# Altium footprint library A.Shelestov_Resistors.PcbLib: 9 footprints
Each footprint in its own frame and in the unit in brackets; x right, y up, seen from the top. Pads: shape width x height; smd on the part's side, far side on the other; paste and mask are expansions set on the pad; w line width, h text height; cw(c..) or ccw(c..) is an arc to the next point about the centre after c.
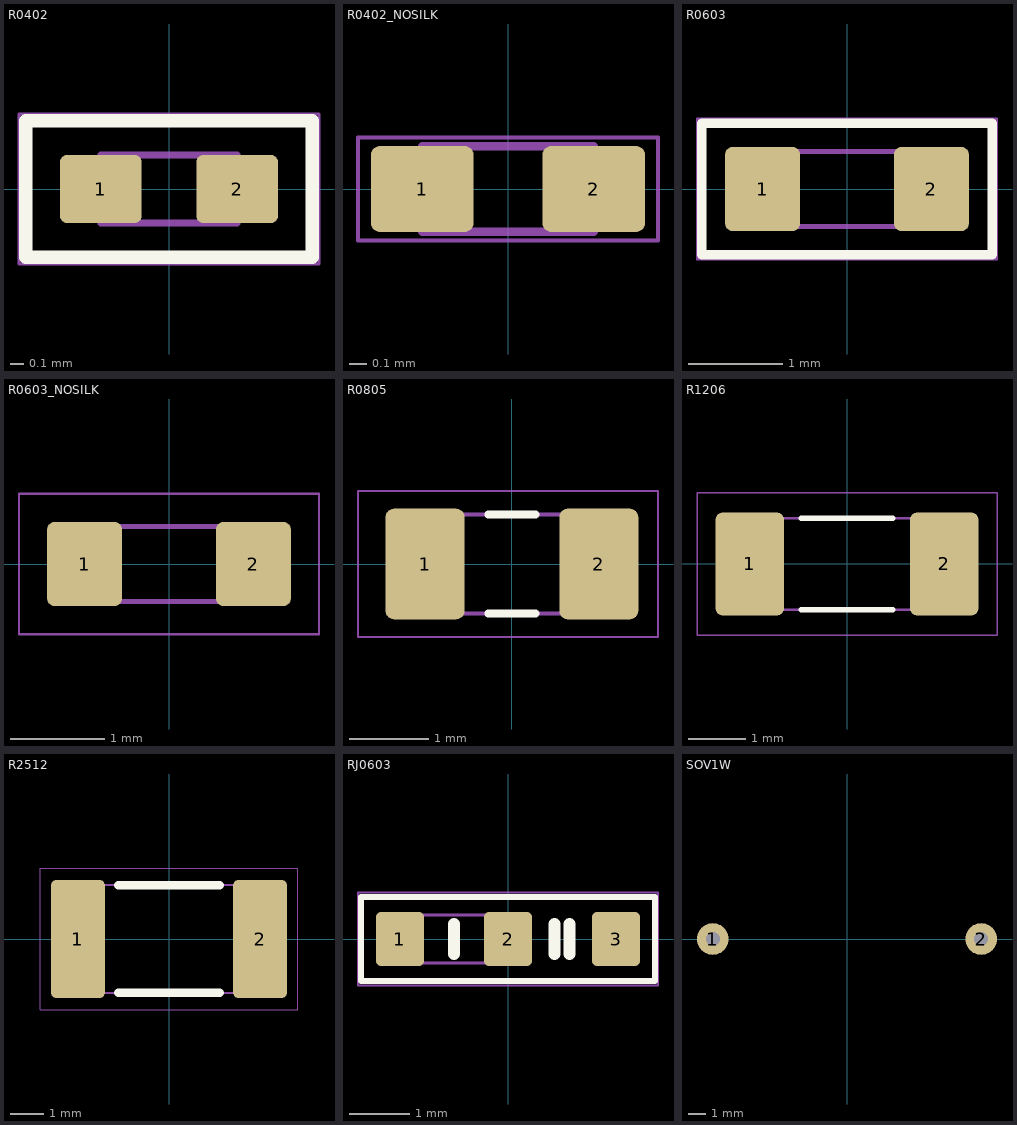
[diagram p0: the footprints below, top view; thin cyan lines are the x and y axes]

## R0402 [mm]
pads (2):
  rrect20% 0.6x0.5 smd: 1(-0.5,0) 2(0.5,0)
Top Overlay:
  lines w0.1: 1.05,0.5 1.05,-0.5 -1.05,-0.5 -1.05,0.5 1.05,0.5 ; 1.05,0.5 1.05,0.5
Top Assembly:
  lines w0.05: -0.5,-0.25 -0.5,0.25 0.5,0.25 0.5,-0.25 -0.5,-0.25
  text ".Designator" at -0.35,-0.15 h0.3
Top Courtyard:
  lines w0.025: -1.1,-0.55 -1.1,0.55 1.1,0.55 1.1,-0.55 -1.1,-0.55
3D body "R0402.step": height 0.35, standoff 0, extent -0.5,-0.25 0.5,0.25

## R0402_NOSILK [mm]
pads (2):
  rrect20% 0.6x0.5 smd: 1(-0.5,0) 2(0.5,0)
Top Assembly:
  lines w0.05: -0.5,-0.25 0.5,-0.25 0.5,0.25 -0.5,0.25 -0.5,-0.25
  text ".Designator" at -0.35,-0.15 h0.3
Top Courtyard:
  lines w0.025: -0.875,-0.3 0.875,-0.3 0.875,0.3 -0.875,0.3 -0.875,-0.3
3D body "R0402.step": height 0.35, standoff 0, extent -0.5,-0.25 0.5,0.25

## R0603 [mm]
pads (2):
  rrect20% 0.8x0.9 smd: 1(-0.9,0) 2(0.9,0)
Top Overlay:
  lines w0.1: -1.55,-0.7 -1.55,0.7 1.55,0.7 1.55,-0.7 -1.55,-0.7
Top Assembly:
  lines w0.05: -0.8,-0.4 -0.8,0.4 0.8,0.4 0.8,-0.4 -0.8,-0.4
  text ".Designator" at -0.65,-0.25 h0.5
Top Courtyard:
  lines w0.025: -1.6,-0.75 -1.6,0.75 1.6,0.75 1.6,-0.75 -1.6,-0.75
3D body "R0603.step": height 0.45, standoff 0, extent -0.8,-0.4 0.8,0.4

## R0603_NOSILK [mm]
pads (2):
  rrect20% 0.8x0.9 smd: 1(-0.9,0) 2(0.9,0)
Top Assembly:
  lines w0.05: -0.8,-0.4 0.8,-0.4 0.8,0.4 -0.8,0.4 -0.8,-0.4
  text ".Designator" at -0.65,-0.25 h0.5
Top Courtyard:
  lines w0.025: -1.6,-0.75 1.6,-0.75 1.6,0.75 -1.6,0.75 -1.6,-0.75
3D body "R0603.step": height 0.45, standoff 0, extent -0.8,-0.4 0.8,0.4

## R0805 [mm]
pads (2):
  rrect20% 1x1.4 smd: 1(-1.1,0) 2(1.1,0)
Top Overlay:
  lines w0.1: -0.3,-0.625 0.3,-0.625 ; -0.3,0.625 0.3,0.625
Top Assembly:
  lines w0.05: -1,-0.624 1,-0.624 1,0.624 -1,0.624 -1,-0.624
  text ".Designator" at -0.875,-0.3 h0.65
Top Courtyard:
  lines w0.025: -1.95,-0.925 1.85,-0.925 1.85,0.925 -1.95,0.925 -1.95,-0.925
3D body "R0805.step": height 0.6, standoff 0, extent -1,-0.625 1,0.625

## R1206 [mm]
pads (2):
  rrect20% 1.2x1.8 smd: 1(-1.7,0) 2(1.7,0)
Top Overlay:
  lines w0.1: -0.8,-0.8 0.8,-0.8 ; -0.8,0.8 0.8,0.8
Top Assembly:
  lines w0.05: -1.6,-0.8 -1.6,0.8 1.6,0.8 1.6,-0.8 -1.6,-0.8
  text ".Designator" at -1.35,-0.5 h1
Top Courtyard:
  lines w0.025: -2.625,-1.25 -2.625,1.25 2.625,1.25 2.625,-1.25 -2.625,-1.25
3D body "R1206.step": height 0.6, standoff 0, extent -1.6,-0.8 1.6,0.8

## R2512 [mm]
pads (2):
  rrect20% 1.6x3.5 smd: 1(-2.7,0) 2(2.7,0)
Top Overlay:
  lines w0.254: -1.5,-1.6 1.5,-1.6 ; -1.5,1.6 1.5,1.6
Top Assembly:
  lines w0.05: -3.2,-1.6 3.2,-1.6 3.2,1.6 -3.2,1.6 -3.2,-1.6
  text ".Designator" at -2.65,-1 h2
Top Courtyard:
  lines w0.025: -3.825,-2.1 3.825,-2.1 3.825,2.1 -3.825,2.1 -3.825,-2.1
3D body "2512-RESC6432X06.step": height 0.6, standoff 0, extent -3.2,-1.6 3.2,1.6

## RJ0603 [mm]
pads (3):
  rrect20% 0.8x0.9 smd: 1(-1.8,0) 2(0,0) 3(1.8,0)
Top Overlay:
  lines w0.1: -2.45,-0.7 2.45,-0.7 2.45,0.7 -2.45,0.7 -2.45,-0.7
  lines w0.2: -0.9,-0.25 -0.9,0.25 ; 0.775,-0.25 0.775,0.25 ; 1.025,-0.25 1.025,0.25
Top Assembly:
  lines w0.05: -1.7,0.4 -0.1,0.4 -0.1,-0.4 ; -1.7,0.401 -1.7,-0.399 -0.1,-0.399
  text ".Designator" at -1.55,-0.25 h0.5
Top Courtyard:
  lines w0.025: -2.5,-0.775 -2.5,0.775 2.5,0.775 2.5,-0.775 -2.5,-0.775
3D body "R0603.step": height 0.45, standoff 0, extent -1.7,-0.4 -0.1,0.4

## SOV1W [mm]
pads (2):
  round 1.8 hole 0.8: 1(-7.62,0) 2(7.62,0)
3D body "sov1w.step": height 5.82, standoff -2, extent -7.994,-1.825 7.995,1.825